# EAGLE library part LM2766 (library svBGC)
LM2766 - Switched Capacitor Voltage Converter
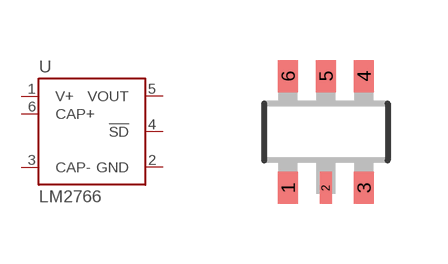
[diagram p10: symbol with the pads of SOT23-6; footprint SOT23-6]

Designator prefix U

## LM2766  [SOT23-6]
1  V+  in
2  GND  pwr
3  CAP-  pas
4  !SD  in
5  VOUT  out
6  CAP+  pas

## Footprint SOT23-6 (pad centres in mm)
SOT23-6
smd 0.5 x 0.8: 1 -0.95,-1.397; 3 0.95,-1.397; 4 0.95,1.397; 5 0,1.397; 6 -0.95,1.397
smd 0.297 x 0.8: 2 0,-1.397